# Altium integrated library ECA1HM470.IntLib: 1 symbol
Pins are listed as number, name and electrical type; pins without a type are passive.

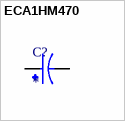
[diagram p0: symbol ECA1HM470]

## ECA1HM470
designator C?
47ÂµF 50V Aluminum Electrolytic Capacitors Radial, Can 2000 Hrs @ 85Â°C; MP: ECA1HM470; MF: Panasonic Electronic; Value: *; SnapEDA_Link: https://www.snapeda.com/parts/ECA1HM470/Panasonic%20Electronic%20Components/view-part/562975/?ref=snap; Availability: In Stock; Package: RADIAL-2 Panasonic; Price: None; Check_prices: https://www.snapeda.com/parts/ECA1HM470/Panasonic%20Electronic%20Components/view-part/562975/?ref=eda; Purchase-URL: https://pricing.snapeda.com/search/part/ECA1HM470/?ref=eda
footprint CAPPRD250W50D630H1120
pins: N, P